# EAGLE library part TM4C123BE6PZ (library ti-tiva)
ARM MICROCONTROLLER (identical to LM4F212E5QC)
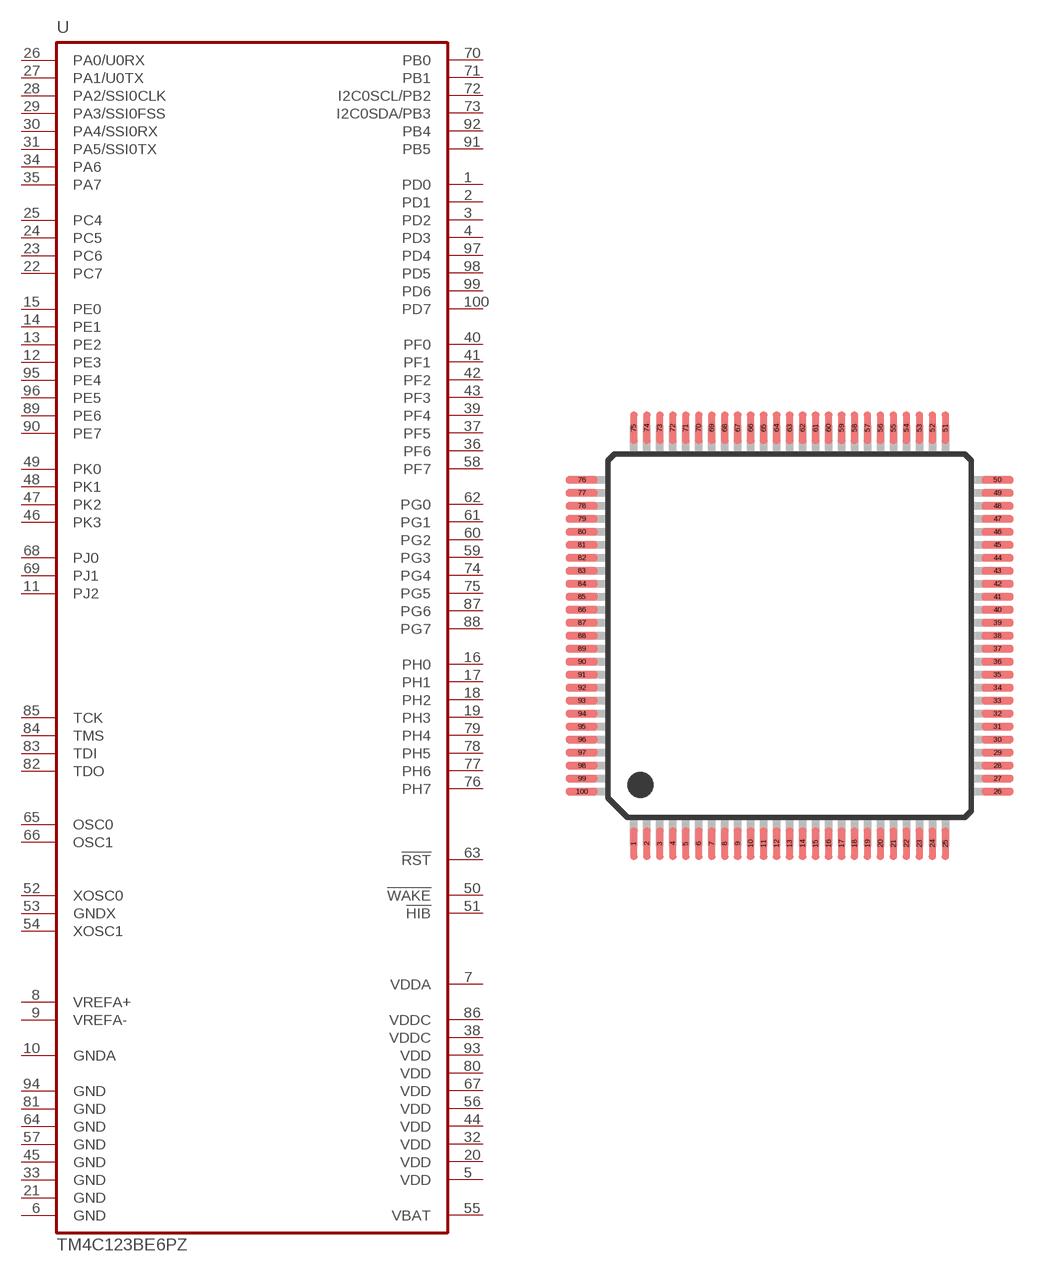
[diagram p0: symbol with the pads of LQFP100; footprint LQFP100]

Designator prefix U

## TM4C123BE6PZ  [LQFP100]
1  PD0
2  PD1
3  PD2
4  PD3
5  VDD  pwr
6  GND  pwr
7  VDDA  pwr
8  VREFA+  pas
9  VREFA-  pas
10  GNDA  pwr
11  PJ2
12  PE3
13  PE2
14  PE1
15  PE0
16  PH0
17  PH1
18  PH2
19  PH3
20  VDD  pwr
21  GND  pwr
22  PC7
23  PC6
24  PC5
25  PC4
26  PA0/U0RX
27  PA1/U0TX
28  PA2/SSI0CLK
29  PA3/SSI0FSS
30  PA4/SSI0RX
31  PA5/SSI0TX
32  VDD  pwr
33  GND  pwr
34  PA6
35  PA7
36  PF6
37  PF5
38  VDDC  pwr
39  PF4
40  PF0
41  PF1
42  PF2
43  PF3
44  VDD  pwr
45  GND  pwr
46  PK3
47  PK2
48  PK1
49  PK0
50  !WAKE!  pas
51  !HIB!  pas
52  XOSC0  pas
53  GNDX  pwr
54  XOSC1  pas
55  VBAT  pas
56  VDD  pwr
57  GND  pwr
58  PF7
59  PG3
60  PG2
61  PG1
62  PG0
63  !RST!  pas
64  GND  pwr
65  OSC0  pas
66  OSC1  pas
67  VDD  pwr
68  PJ0
69  PJ1
70  PB0
71  PB1
72  I2C0SCL/PB2
73  I2C0SDA/PB3
74  PG4
75  PG5
76  PH7
77  PH6
78  PH5
79  PH4
80  VDD  pwr
81  GND  pwr
82  TDO  out
83  TDI  in
84  TMS  in
85  TCK  in
86  VDDC  pwr
87  PG6
88  PG7
89  PE6
90  PE7
91  PB5
92  PB4
93  VDD  pwr
94  GND  pwr
95  PE4
96  PE5
97  PD4
98  PD5
99  PD6
100  PD7

## Footprint LQFP100 (pad centres in mm)
LQFP-100 Package
smd 0.3 x 1.25: 1 -6,-8; 2 -5.5,-8; 3 -5,-8; 4 -4.5,-8; 5 -4,-8; 6 -3.5,-8; 7 -3,-8; 8 -2.5,-8; 9 -2,-8; 10 -1.5,-8; 11 -1,-8; 12 -0.5,-8; 13 0,-8; 14 0.5,-8; 15 1,-8; 16 1.5,-8; 17 2,-8; 18 2.5,-8; 19 3,-8; 20 3.5,-8; 21 4,-8; 22 4.5,-8; 23 5,-8; 24 5.5,-8; 25 6,-8; 51 6,8; 52 5.5,8; 53 5,8; 54 4.5,8; 55 4,8; 56 3.5,8; 57 3,8; 58 2.5,8; 59 2,8; 60 1.5,8; 61 1,8; 62 0.5,8; 63 0,8; 64 -0.5,8; 65 -1,8; 66 -1.5,8; 67 -2,8; 68 -2.5,8; 69 -3,8; 70 -3.5,8; 71 -4,8; 72 -4.5,8; 73 -5,8; 74 -5.5,8; 75 -6,8
smd 1.25 x 0.3: 26 8,-6; 27 8,-5.5; 28 8,-5; 29 8,-4.5; 30 8,-4; 31 8,-3.5; 32 8,-3; 33 8,-2.5; 34 8,-2; 35 8,-1.5; 36 8,-1; 37 8,-0.5; 38 8,0; 39 8,0.5; 40 8,1; 41 8,1.5; 42 8,2; 43 8,2.5; 44 8,3; 45 8,3.5; 46 8,4; 47 8,4.5; 48 8,5; 49 8,5.5; 50 8,6; 76 -8,6; 77 -8,5.5; 78 -8,5; 79 -8,4.5; 80 -8,4; 81 -8,3.5; 82 -8,3; 83 -8,2.5; 84 -8,2; 85 -8,1.5; 86 -8,1; 87 -8,0.5; 88 -8,0; 89 -8,-0.5; 90 -8,-1; 91 -8,-1.5; 92 -8,-2; 93 -8,-2.5; 94 -8,-3; 95 -8,-3.5; 96 -8,-4; 97 -8,-4.5; 98 -8,-5; 99 -8,-5.5; 100 -8,-6